# Altium schematic symbol library mind.SchLib: 12 symbols
Pins are listed as number, name and electrical type; pins without a type are passive.

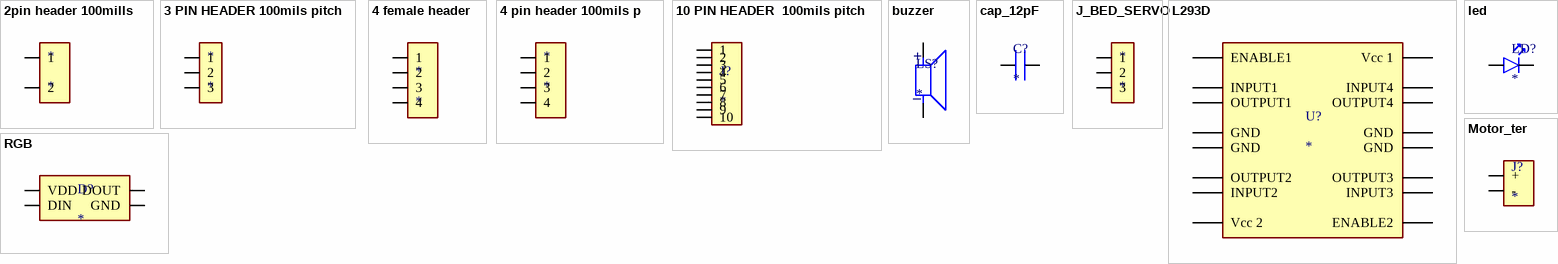
[diagram p0: symbols 2pin header 100mills to RGB]

## 2pin header 100mills
designator *
footprint 2 PIN header2.54
pins: 1, 2

## 3 PIN HEADER 100mils pitch
designator *
MFR: Harwin; MPN: M20-9990346; SUPPLIER: LCSC; SUPPLIER PART #: C5355646
footprint 3 pin header 100 mils
pins: 1, 2, 3

## 4 female header
designator *
CONN SOCKET 4POS 2.54mm SINGLE ROW TH; MFR: BOOMELE(Boom Precision Elec); MPN: 2.54-1*4P; SUPPLIER: LCSC; SUPPLIER PART #: C2718488; ComponentLink1Description: link; ComponentLink1URL: https://www.lcsc.com/product-detail/C2718488.html?s_z=n_q_t_Female%2520Header%25202.54mm&spm=wm.fly.bg.2.stp___wm.ssy.tc.0.tz&lcsc_vid=RwUNAlQEFVQKBl1XEgMNU1FXTwNbUQdRRANXVFFRFVMxVlNeT1JaXldUQlZWUjsOAxUeFF5JWBYZEEoKFBINSQcJGk4NBhADEA4cHktRTlJADxALGw%3D%3D
footprint 4 female header
pins: 1, 2, 3, 4

## 4 pin header 100mils p
designator *
MFR: Harwin; MPN: M20-9730446; SUPPLIER: LCSC; SUPPLIER PART #: C3348000; ComponentLink1Description: LCCSC link; ComponentLink1URL: https://www.lcsc.com/product-detail/C3348000.html?s_z=n_q_M20-9730446&spm=wm.fly.bg.0.cbh&lcsc_vid=RwUNAlQEFVQKBl1XEgMNU1FXTwNbUQdRRANXVFFRFVMxVlNeQFJbUlVVT1heUjsOAxUeFF5JWBYZEEoKFBINSQcJGk4NBhADEA4cHktRTlNADxALGw%3D%3D
footprint pin header 4 pos 100mil
pins: 1, 2, 3, 4

## 10 PIN HEADER  100mils pitch
designator J?
Pin Header 10 Position 2.54mm Pitch Single Row Through Hole -55℃~+125℃; MFR: Samtec; MPN: TSW-110-06-S-S; supplier: lcsc; supplier part #: C3345668; ComponentLink1Description: lcsc link; ComponentLink1URL: https://www.lcsc.com/product-detail/C3345668.html?s_z=n_q_TSW-110-06-S-S&spm=wm.fly.bg.0.cbh&lcsc_vid=RwUNAlQEFVQKBl1XEgMNU1FXTwNbUQdRRANXVFFRFVMxVlNeQFJbVFVTTlFfUjsOAxUeFF5JWBYZEEoKFBINSQcJGk4eFQsCAgIaSgADAwAHC0slRVhYXlNTQk8GEwkK
footprint pin header 10pos 100mils pitch
pins: 1, 2, 3, 4, 5, 6, 7, 8, 9, 10

## buzzer
designator LS?
BUZZER MAGNETIC 4V~8V 12mm TH; MFR: Huaneng; MPN: TMB12A05; SUPPLIER: LCSC; SUPPLIER PART #: C96093; ComponentLink1Description: New link; ComponentLink1URL: *
footprint buzzer
pins: N, P
text: +; _

## cap_12pF
designator C?
CAP CER 12pF 50V C0G 0805; MFR: Kyocera AVX; MPN: 08055A120JAT2A; supplier: lcsc; supplier part #: C597358
footprint CAP12pF
pins: 1, 2

## J_BED_SERVO
designator *
MFR: Harwin; MPN: M20-9990346; SUPPLIER: LCSC; SUPPLIER PART #: C5355646
footprint 3 pin header 100 mils
pins: 1, 2, 3

## L293D
designator U?
Bipolar Motor Driver - Parallel 16-PowerDIP; MFR: ST; MPN: L293D; SUP PART #: C12340; SUPPLIER: LCSC; ComponentLink1Description: ink; ComponentLink1URL: https://www.lcsc.com/product-detail/C12340.html?s_z=s_p_t_L293D&spm=wm.fly.bg.1.xh___wm.ssy.tc.0.tz&lcsc_vid=RwUNAlQEFVQKBl1XEgMNU1FXTwNbUQdRRANXVFFRFVMxVlNeT1NZUVRWTllfVjsOAxUeFF5JWBYZEEoKFBINSQcJGk4eFQsCAgIaSgADAwAHC0slT1RWU1RIHxUDCw%3D%3D
footprint l293D
pins: 1 ENABLE1, 2 INPUT1, 3 OUTPUT1, 4 GND (power), 5 GND (power), 6 OUTPUT2, 7 INPUT2, 8 Vcc 2 (power), 9 ENABLE2, 10 INPUT3, 11 OUTPUT3, 12 GND (power), 13 GND (power), 14 OUTPUT4, 15 INPUT4, 16 Vcc 1 (power)

## led
designator LD?
20mA Water Clear 865mcd 590nm Yellow 2V 0805 LED Color Lighting RoHS; MFR: SunLED; MFR part #: XZMYK54W-8; supllier part #: C6759179; supplier: lcsc; ComponentLink1Description: datasheet; ComponentLink1URL: https://www.lcsc.com/datasheet/C6759179.pdf?spm=wm.sxq.inf.ggs___wm.fly.bg.0.stp&lcsc_vid=T1lZAgUDR1VfUABTElhaXgZfQFVcUgYHQwJZX1ZTQFAxVlNeQVJeUlBeQVddUDsOAxUeFF5JWBYZEEoKFBINSQcJGk4dAgUUFAk%3D
footprint LED_HSMZ-C170
pins: 1, 2

## Motor_ter
designator J?
TERM BLK 2POS 2.54mm TH; MFR: Molex; MPN: 397730002; SUPPLIER: lcsc; SUPPLIER PART #: C6957573
footprint motor_terminal
pins: 1 +, 2 -

## RGB
designator D?
SMD 5050 Full color RGB LED data transmission frequency up to 800Kbps, with 30 fps refresh rate, 5.00x5.00 mm; MFR: Shenzhen LED Color Optoelectronic Inc.; MPN: SMD-4 Shenzhen LED Color Optoelectronic Inc.; SUPPLIER: LCSC; SUPPLIER PART #: None
footprint RGB_LED
pins: 1 VDD (power), 2 DIN, 3 GND (power), 4 DOUT